# Altium integrated library Linear Technology Power Management Hot Swap Controllers.IntLib: 992 symbols (part 74 of 93)
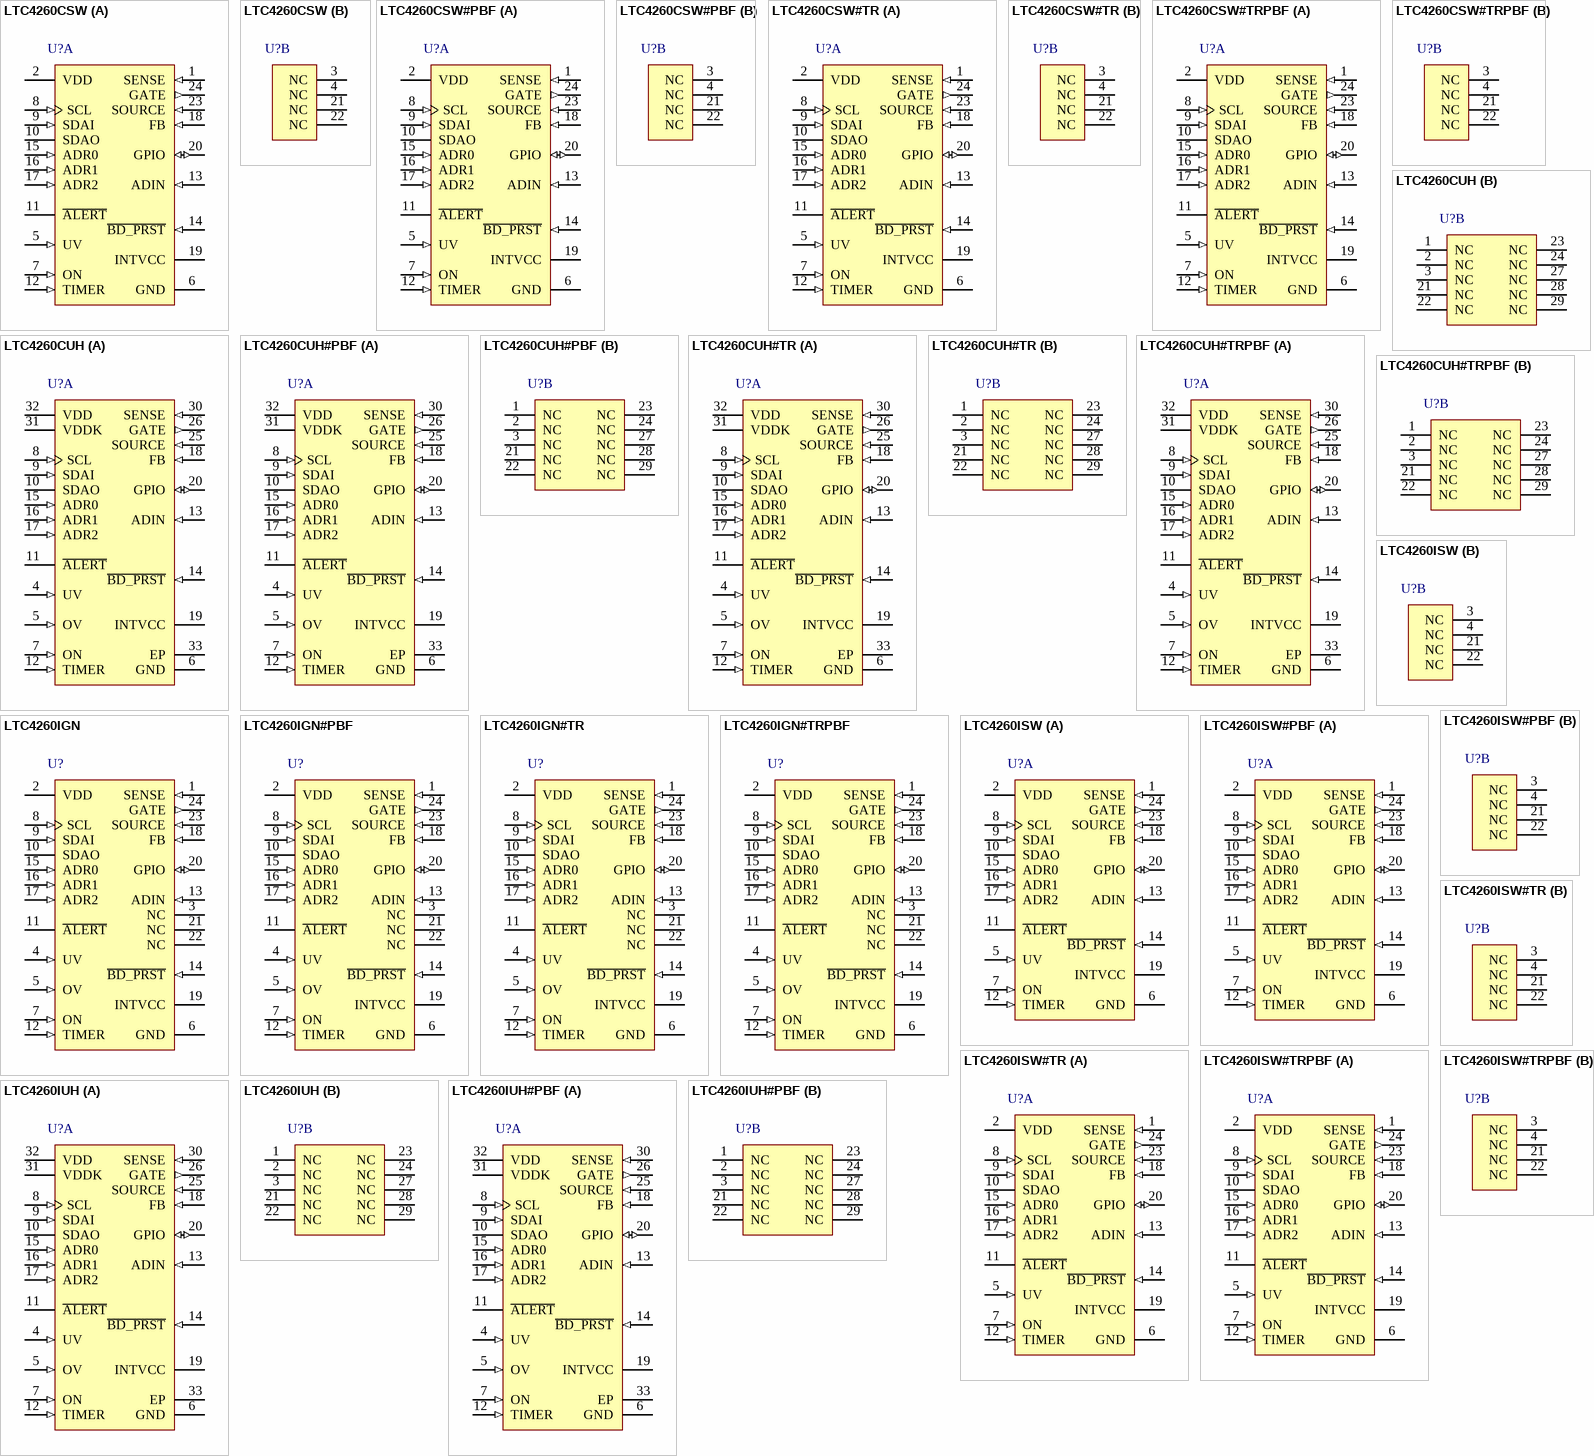
[diagram p110: symbols LTC4260CSW to LTC4260IUH#PBF]

## LTC4260CSW#PBF
designator U?
Positive High Voltage Hot Swap Controller with I2C Compatible Monitoring, 8.5 to 80 V Vin, 24-pin SOIC (SW-24), 0 to 70 degC, Pb-Free; Manufacturer: Linear Technology; PartNumber: LTC4260CSW#PBF; Active Limiting: yes; ADC: 8-bit; Circuit Breaker Accuracy(%): 10; Circuit Breaker Threshold: 50 mV; Circuit Breakers(#): 1; Extended Temp: C, I; Fast Comparator: no; In-Rush Current: Active; DatasheetVersion: Rev. C; PackageVersion: Jun-10; PackageReference: SW-24; PackageDescription: 24-Pin Plastic Small Outline, Body 15.395 x 7.493 mm, Pitch 1.27 mm; Supplier 1: Digi-Key; Supplier Part Number 1: LTC4260CSW#PBF-ND; Fault: yes; Foldback: yes; Power Good: yes; Reset: no; RoHS: TRUE; Vin Range: 8.5 to 80 V; Mounting Technology: Surface Mount; ComponentLink1Description: Manufacturer URL; ComponentLink1URL: http://www.linear.com/; ComponentLink2Description: Datasheet; ComponentLink2URL: http://cds.linear.com/docs/en/datasheet/4260fc.pdf; ComponentLink3Description: Package Specification; ComponentLink3URL: http://cds.linear.com/docs/Packaging/SO_24_05-08-1620.pdf
footprint LT-SW-24_N (SOIC, 24-Leads, Body 15.6x7.6mm, Pitch 1.27mm, IPC Medium Density)
footprint LT-SW-24_L (SOIC, 24-Leads, Body 15.6x7.6mm, Pitch 1.27mm, IPC High Density)
footprint LT-SW-24_M (SOIC, 24-Leads, Body 15.6x7.6mm, Pitch 1.27mm, IPC Low Density)
part A pins: 1 SENSE (in) "Current Sense Input. Connect this pin to the output of the current sense resistor.", 2 VDD (power) "Supply Voltage and Current Sense Input. This pin has an undervoltage lockout threshold of 7.45V.", 5 UV (in) "Undervoltage Comparator Input. Connect this pin to an external resistive divider from VDD. If the voltage at this pin falls below 3.12V, an undervoltage fault is detected and the switch turns off. Pulling this pin below 1.2V (See Datasheet)", 6 GND (power) "Device Ground.", 7 ON (in) "On Control Input. A rising edge turns on the external N-channel FET and a falling edge turns it off.", 8 SCL (in) "Serial Bus Clock Input. Data at the SDA pin is shifted in or out on rising edges of SCL.", 9 SDAI (in) "Serial Bus Data Input. A high impedance input used for shifting in address, command or data bits. Normally tied to SDAO to form the SDA line.", 10 SDAO (oc) "Serial Bus Data Output. Open-drain output used for sending data back to the master controller or acknowledging a write operation. Normally tied to SDAI to form the SDA line. An external pull-up resistor or current source is (See Datasheet)", 11 ~{ALERT} (oc) "Fault Alert Output. Open-drain logic output that can be pulled to ground when a fault occurs to alert the host controller. A fault alert is enabled by the ALERT register. This device is compatible with SMBus alert protocol. (See Datasheet)", 12 TIMER (in) "Timer Input. Connect a capacitor between this pin and ground to set a 12ms/uF duration for current limit before the switch is turned off.", 13 ADIN (in) "ADC Input. A voltage between 0V and 2.56V applied to this pin can be measured by the onboard ADC. Tie to ground if unused.", 14 ~{BD_PRST} (in) "Board Present Input. Ground this pin to enable the N-channel FET to turn on after 100ms debounce delay. When this pin is high, the FET is off. An internal 10uA current source pulls up this pin.", 15 ADR0 (in) "Serial Bus Address Inputs. Tying these pins to ground, open or INTVCC configures one of 27 possible addresses. See Table 1 in Applications Information", 16 ADR1 (in) "Serial Bus Address Inputs. Tying these pins to ground, open or INTVCC configures one of 27 possible addresses. See Table 1 in Applications Information", 17 ADR2 (in) "Serial Bus Address Inputs. Tying these pins to ground, open or INTVCC configures one of 27 possible addresses. See Table 1 in Applications Information", 18 FB (in) "Foldback and Power Good Input. A resistive divider from the output voltage is tied to this pin.", 19 INTVCC (power) "Internal Low Voltage Supply Decoupling Output. Connect a 0.1uF capacitor from this pin to ground. This pin can be used to drive the other pins to logic high and has an undervoltage lockout threshold of 3.8V.", 20 GPIO (io) "General Purpose Input/Output. Open-drain logic output and logic input. Defaults to pull low to indicatepower is bad. Configure according to Table 3.", 23 SOURCE (in) "N-Channel MOSFET Source Connection and ADC Input. Connect this pin to the source of the external N-channel MOSFET switch. This pin also serves as the ADC input to monitor output voltage. The pin provides a return for the (See Datasheet)", 24 GATE (out) "Gate Drive for External N-Channel FET. An internal 18uA current source charges the gate of the external N-channel MOSFET. A resistor and capacitor network from this pin to ground sets the turn-on rate and compensates th(See Datasheet)"
part B pins: 3 NC "No Connect. Unconnected pins. These pins provide extra distance between high and low voltage pins.", 4 NC "No Connect. Unconnected pins. These pins provide extra distance between high and low voltage pins.", 21 NC "No Connect. Unconnected pins. These pins provide extra distance between high and low voltage pins.", 22 NC "No Connect. Unconnected pins. These pins provide extra distance between high and low voltage pins."

## LTC4260CSW#TR
designator U?
Positive High Voltage Hot Swap Controller with I2C Compatible Monitoring, 8.5 to 80 V Vin, 24-pin SOIC (SW-24), 0 to 70 degC, Tape and Reel; Manufacturer: Linear Technology; PartNumber: LTC4260CSW#TR; Active Limiting: yes; ADC: 8-bit; Circuit Breaker Accuracy(%): 10; Circuit Breaker Threshold: 50 mV; Circuit Breakers(#): 1; Extended Temp: C, I; Fast Comparator: no; In-Rush Current: Active; DatasheetVersion: Rev. C; PackageVersion: Jun-10; PackageReference: SW-24; PackageDescription: 24-Pin Plastic Small Outline, Body 15.395 x 7.493 mm, Pitch 1.27 mm; Fault: yes; Foldback: yes; Packing: Tape and Reel; Power Good: yes; Reset: no; RoHS: FALSE; Vin Range: 8.5 to 80 V; Mounting Technology: Surface Mount; ComponentLink1Description: Manufacturer URL; ComponentLink1URL: http://www.linear.com/; ComponentLink2Description: Datasheet; ComponentLink2URL: http://cds.linear.com/docs/en/datasheet/4260fc.pdf; ComponentLink3Description: Package Specification; ComponentLink3URL: http://cds.linear.com/docs/Packaging/SO_24_05-08-1620.pdf
footprint LT-SW-24_N (SOIC, 24-Leads, Body 15.6x7.6mm, Pitch 1.27mm, IPC Medium Density)
footprint LT-SW-24_L (SOIC, 24-Leads, Body 15.6x7.6mm, Pitch 1.27mm, IPC High Density)
footprint LT-SW-24_M (SOIC, 24-Leads, Body 15.6x7.6mm, Pitch 1.27mm, IPC Low Density)
part A pins: 1 SENSE (in) "Current Sense Input. Connect this pin to the output of the current sense resistor.", 2 VDD (power) "Supply Voltage and Current Sense Input. This pin has an undervoltage lockout threshold of 7.45V.", 5 UV (in) "Undervoltage Comparator Input. Connect this pin to an external resistive divider from VDD. If the voltage at this pin falls below 3.12V, an undervoltage fault is detected and the switch turns off. Pulling this pin below 1.2V (See Datasheet)", 6 GND (power) "Device Ground.", 7 ON (in) "On Control Input. A rising edge turns on the external N-channel FET and a falling edge turns it off.", 8 SCL (in) "Serial Bus Clock Input. Data at the SDA pin is shifted in or out on rising edges of SCL.", 9 SDAI (in) "Serial Bus Data Input. A high impedance input used for shifting in address, command or data bits. Normally tied to SDAO to form the SDA line.", 10 SDAO (oc) "Serial Bus Data Output. Open-drain output used for sending data back to the master controller or acknowledging a write operation. Normally tied to SDAI to form the SDA line. An external pull-up resistor or current source is (See Datasheet)", 11 ~{ALERT} (oc) "Fault Alert Output. Open-drain logic output that can be pulled to ground when a fault occurs to alert the host controller. A fault alert is enabled by the ALERT register. This device is compatible with SMBus alert protocol. (See Datasheet)", 12 TIMER (in) "Timer Input. Connect a capacitor between this pin and ground to set a 12ms/uF duration for current limit before the switch is turned off.", 13 ADIN (in) "ADC Input. A voltage between 0V and 2.56V applied to this pin can be measured by the onboard ADC. Tie to ground if unused.", 14 ~{BD_PRST} (in) "Board Present Input. Ground this pin to enable the N-channel FET to turn on after 100ms debounce delay. When this pin is high, the FET is off. An internal 10uA current source pulls up this pin.", 15 ADR0 (in) "Serial Bus Address Inputs. Tying these pins to ground, open or INTVCC configures one of 27 possible addresses. See Table 1 in Applications Information", 16 ADR1 (in) "Serial Bus Address Inputs. Tying these pins to ground, open or INTVCC configures one of 27 possible addresses. See Table 1 in Applications Information", 17 ADR2 (in) "Serial Bus Address Inputs. Tying these pins to ground, open or INTVCC configures one of 27 possible addresses. See Table 1 in Applications Information", 18 FB (in) "Foldback and Power Good Input. A resistive divider from the output voltage is tied to this pin.", 19 INTVCC (power) "Internal Low Voltage Supply Decoupling Output. Connect a 0.1uF capacitor from this pin to ground. This pin can be used to drive the other pins to logic high and has an undervoltage lockout threshold of 3.8V.", 20 GPIO (io) "General Purpose Input/Output. Open-drain logic output and logic input. Defaults to pull low to indicatepower is bad. Configure according to Table 3.", 23 SOURCE (in) "N-Channel MOSFET Source Connection and ADC Input. Connect this pin to the source of the external N-channel MOSFET switch. This pin also serves as the ADC input to monitor output voltage. The pin provides a return for the (See Datasheet)", 24 GATE (out) "Gate Drive for External N-Channel FET. An internal 18uA current source charges the gate of the external N-channel MOSFET. A resistor and capacitor network from this pin to ground sets the turn-on rate and compensates th(See Datasheet)"
part B pins: 3 NC "No Connect. Unconnected pins. These pins provide extra distance between high and low voltage pins.", 4 NC "No Connect. Unconnected pins. These pins provide extra distance between high and low voltage pins.", 21 NC "No Connect. Unconnected pins. These pins provide extra distance between high and low voltage pins.", 22 NC "No Connect. Unconnected pins. These pins provide extra distance between high and low voltage pins."

## LTC4260CSW#TRPBF
designator U?
Positive High Voltage Hot Swap Controller with I2C Compatible Monitoring, 8.5 to 80 V Vin, 24-pin SOIC (SW-24), 0 to 70 degC, Pb-Free, Tape and Reel; Manufacturer: Linear Technology; PartNumber: LTC4260CSW#TRPBF; Active Limiting: yes; ADC: 8-bit; Circuit Breaker Accuracy(%): 10; Circuit Breaker Threshold: 50 mV; Circuit Breakers(#): 1; Extended Temp: C, I; Fast Comparator: no; In-Rush Current: Active; DatasheetVersion: Rev. C; PackageVersion: Jun-10; PackageReference: SW-24; PackageDescription: 24-Pin Plastic Small Outline, Body 15.395 x 7.493 mm, Pitch 1.27 mm; Supplier 1: Digi-Key; Supplier Part Number 1: LTC4260CSW#TRPBF-ND; Fault: yes; Foldback: yes; Packing: Tape and Reel; Power Good: yes; Reset: no; RoHS: TRUE; Vin Range: 8.5 to 80 V; Mounting Technology: Surface Mount; ComponentLink1Description: Manufacturer URL; ComponentLink1URL: http://www.linear.com/; ComponentLink2Description: Datasheet; ComponentLink2URL: http://cds.linear.com/docs/en/datasheet/4260fc.pdf; ComponentLink3Description: Package Specification; ComponentLink3URL: http://cds.linear.com/docs/Packaging/SO_24_05-08-1620.pdf
footprint LT-SW-24_N (SOIC, 24-Leads, Body 15.6x7.6mm, Pitch 1.27mm, IPC Medium Density)
footprint LT-SW-24_L (SOIC, 24-Leads, Body 15.6x7.6mm, Pitch 1.27mm, IPC High Density)
footprint LT-SW-24_M (SOIC, 24-Leads, Body 15.6x7.6mm, Pitch 1.27mm, IPC Low Density)
part A pins: 1 SENSE (in) "Current Sense Input. Connect this pin to the output of the current sense resistor.", 2 VDD (power) "Supply Voltage and Current Sense Input. This pin has an undervoltage lockout threshold of 7.45V.", 5 UV (in) "Undervoltage Comparator Input. Connect this pin to an external resistive divider from VDD. If the voltage at this pin falls below 3.12V, an undervoltage fault is detected and the switch turns off. Pulling this pin below 1.2V (See Datasheet)", 6 GND (power) "Device Ground.", 7 ON (in) "On Control Input. A rising edge turns on the external N-channel FET and a falling edge turns it off.", 8 SCL (in) "Serial Bus Clock Input. Data at the SDA pin is shifted in or out on rising edges of SCL.", 9 SDAI (in) "Serial Bus Data Input. A high impedance input used for shifting in address, command or data bits. Normally tied to SDAO to form the SDA line.", 10 SDAO (oc) "Serial Bus Data Output. Open-drain output used for sending data back to the master controller or acknowledging a write operation. Normally tied to SDAI to form the SDA line. An external pull-up resistor or current source is (See Datasheet)", 11 ~{ALERT} (oc) "Fault Alert Output. Open-drain logic output that can be pulled to ground when a fault occurs to alert the host controller. A fault alert is enabled by the ALERT register. This device is compatible with SMBus alert protocol. (See Datasheet)", 12 TIMER (in) "Timer Input. Connect a capacitor between this pin and ground to set a 12ms/uF duration for current limit before the switch is turned off.", 13 ADIN (in) "ADC Input. A voltage between 0V and 2.56V applied to this pin can be measured by the onboard ADC. Tie to ground if unused.", 14 ~{BD_PRST} (in) "Board Present Input. Ground this pin to enable the N-channel FET to turn on after 100ms debounce delay. When this pin is high, the FET is off. An internal 10uA current source pulls up this pin.", 15 ADR0 (in) "Serial Bus Address Inputs. Tying these pins to ground, open or INTVCC configures one of 27 possible addresses. See Table 1 in Applications Information", 16 ADR1 (in) "Serial Bus Address Inputs. Tying these pins to ground, open or INTVCC configures one of 27 possible addresses. See Table 1 in Applications Information", 17 ADR2 (in) "Serial Bus Address Inputs. Tying these pins to ground, open or INTVCC configures one of 27 possible addresses. See Table 1 in Applications Information", 18 FB (in) "Foldback and Power Good Input. A resistive divider from the output voltage is tied to this pin.", 19 INTVCC (power) "Internal Low Voltage Supply Decoupling Output. Connect a 0.1uF capacitor from this pin to ground. This pin can be used to drive the other pins to logic high and has an undervoltage lockout threshold of 3.8V.", 20 GPIO (io) "General Purpose Input/Output. Open-drain logic output and logic input. Defaults to pull low to indicatepower is bad. Configure according to Table 3.", 23 SOURCE (in) "N-Channel MOSFET Source Connection and ADC Input. Connect this pin to the source of the external N-channel MOSFET switch. This pin also serves as the ADC input to monitor output voltage. The pin provides a return for the (See Datasheet)", 24 GATE (out) "Gate Drive for External N-Channel FET. An internal 18uA current source charges the gate of the external N-channel MOSFET. A resistor and capacitor network from this pin to ground sets the turn-on rate and compensates th(See Datasheet)"
part B pins: 3 NC "No Connect. Unconnected pins. These pins provide extra distance between high and low voltage pins.", 4 NC "No Connect. Unconnected pins. These pins provide extra distance between high and low voltage pins.", 21 NC "No Connect. Unconnected pins. These pins provide extra distance between high and low voltage pins.", 22 NC "No Connect. Unconnected pins. These pins provide extra distance between high and low voltage pins."

## LTC4260CUH
designator U?
Positive High Voltage Hot Swap Controller with I2C Compatible Monitoring, 8.5 to 80 V Vin, 32-pin QFN (UH-32), 0 to 70 degC; Manufacturer: Linear Technology; PartNumber: LTC4260CUH; Active Limiting: yes; ADC: 8-bit; Circuit Breaker Accuracy(%): 10; Circuit Breaker Threshold: 50 mV; Circuit Breakers(#): 1; Extended Temp: C, I; Fast Comparator: no; In-Rush Current: Active; DatasheetVersion: Rev. C; PackageVersion: Rev. D, 06/2010; PackageReference: UH-32; PackageDescription: 32-Pin Plastic QFN, Body 5 x 5 mm, Pitch 0.5 mm; Fault: yes; Foldback: yes; Power Good: yes; Reset: no; RoHS: FALSE; Vin Range: 8.5 to 80 V; Mounting Technology: Surface Mount; Code_JEDEC: MO-220; ComponentLink1Description: Manufacturer URL; ComponentLink1URL: http://www.linear.com/; ComponentLink2Description: Datasheet; ComponentLink2URL: http://cds.linear.com/docs/en/datasheet/4260fc.pdf; ComponentLink3Description: Package Specification; ComponentLink3URL: http://cds.linear.com/docs/en/packaging/QFN_32_05-08-1693.pdf
footprint LT-UH-32_N (QFN, 32-Leads, Body 5.1x5.1mm, Pitch 0.5mm, Thermal Pad 3.45X3.45mm, IPC Medium Density)
footprint LT-UH-32_L (QFN, 32-Leads, Body 5.1x5.1mm, Pitch 0.5mm, Thermal Pad 3.45X3.45mm, IPC High Density)
footprint LT-UH-32_M (QFN, 32-Leads, Body 5.1x5.1mm, Pitch 0.5mm, Thermal Pad 3.45X3.45mm, IPC Low Density)
part A pins: 4 UV (in) "Undervoltage Comparator Input. Connect this pin to an external resistive divider from VDD. If the voltage at this pin falls below 3.12V, an undervoltage fault is detected and the switch turns off. Pulling this pin below 1.2V (See Datasheet)", 5 OV (in) "Overvoltage Comparator Input. Connect this pin to an external resistive divider from VDD. If the voltage at this pin rises above 3.5V, an overvoltage fault is detected and the switch turns off. Tie to GND if unused.", 6 GND (power) "Device Ground.", 7 ON (in) "On Control Input. A rising edge turns on the external N-channel FET and a falling edge turns it off. This pin is also used to configure the state of the FET ON bit (and hence the external FET) at power up. For example if the (See Datasheet)", 8 SCL (in) "Serial Bus Clock Input. Data at the SDA pin is shifted in or out on rising edges of SCL. This is a high impedance pin that is generally driven by an open-collector output from a master controller. An external pull-up (See Datasheet)", 9 SDAI (in) "Serial Bus Data Input. A high impedance input used for shifting in address, command or data bits. Normally tied to SDAO to form the SDA line.", 10 SDAO (oc) "Serial Bus Data Output. Open-drain output used for sending data back to the master controller or acknowledging a write operation. Normally tied to SDAI to form the SDA line. An external pull-up resistor or current source is (See Datasheet)", 11 ~{ALERT} (oc) "Fault Alert Output. Open-drain logic output that can be pulled to ground when a fault occurs to alert the host controller. A fault alert is enabled by the ALERT register. This device is compatible with SMBus alert protocol. (See Datasheet)", 12 TIMER (in) "Timer Input. Connect a capacitor between this pin and ground to set a 12ms/uF duration for current limit before the switch is turned off. The duration of the off time is 518ms/uF when autoretry during current limit is (See Datasheet)", 13 ADIN (in) "ADC Input. A voltage between 0V and 2.56V applied to this pin can be measured by the onboard ADC. Tie to ground if unused.", 14 ~{BD_PRST} (in) "Board Present Input. Ground this pin to enable the N-channel FET to turn on after 100ms debounce delay. When this pin is high, the FET is off. An internal 10uA current source pulls up this pin. Transitions on this pin will (See Datasheet)", 15 ADR0 (in) "Serial Bus Address Inputs. Tying these pins to ground, open or INTVCC configures one of 27 possible addresses. See Table 1 in Applications Information.", 16 ADR1 (in) "Serial Bus Address Inputs. Tying these pins to ground, open or INTVCC configures one of 27 possible addresses. See Table 1 in Applications Information.", 17 ADR2 (in) "Serial Bus Address Inputs. Tying these pins to ground, open or INTVCC configures one of 27 possible addresses. See Table 1 in Applications Information.", 18 FB (in) "Foldback and Power Good Input. A resistive divider from the output voltage is tied to this pin. When the voltage at this pin drops below 3.41V, the output power is considered bad and the current limit is reduced. The power (See Datasheet)", 19 INTVCC (power) "Internal Low Voltage Supply Decoupling Output. Connect a 0.1uF capacitor from this pin to ground. This pin can be used to drive the other pins to logic high and has an undervoltage lockout threshold of 3.8V.", 20 GPIO (io) "General Purpose Input/Output. Open-drain logic output and logic input. Defaults to pull low to indicate power is bad. Configure according to Table 3.", 25 SOURCE (in) "N-Channel MOSFET Source Connection and ADC Input. Connect this pin to the source of the external N-channel MOSFET switch. This pin also serves as the ADC input to monitor output voltage. The pin provides a return for the (See Datasheet)", 26 GATE (out) "Gate Drive for External N-Channel FET. An internal 18uA current source charges the gate of the external N-channel MOSFET. A resistor and capacitor network from this pin to ground sets the turn-on rate and compensates th(See Datasheet)", 30 SENSE (in) "Current Sense Input. Connect this pin to the output of the current sense resistor. The current limit circuit controls the GATE pin to limit the sense voltage between the VDD and SENSE pins to 50mV or less depending on the (See Datasheet)", 31 VDDK (power) "Same as VDD. Connect this pin to VDD. VDDK tied to VDD internally with 18ohm.", 32 VDD (power) "Supply Voltage and Current Sense Input. This pin has an undervoltage lockout threshold of 7.45V.", 33 EP (power) "Exposed pad may be left open or connected to device ground."
part B pins: 1 NC "No Connect. Unconnected pins. These pins provide extra distance between high and low voltage pins.", 2 NC "No Connect. Unconnected pins. These pins provide extra distance between high and low voltage pins.", 3 NC "No Connect. Unconnected pins. These pins provide extra distance between high and low voltage pins.", 21 NC "No Connect. Unconnected pins. These pins provide extra distance between high and low voltage pins.", 22 NC "No Connect. Unconnected pins. These pins provide extra distance between high and low voltage pins.", 23 NC "No Connect. Unconnected pins. These pins provide extra distance between high and low voltage pins.", 24 NC "No Connect. Unconnected pins. These pins provide extra distance between high and low voltage pins.", 27 NC "No Connect. Unconnected pins. These pins provide extra distance between high and low voltage pins.", 28 NC "No Connect. Unconnected pins. These pins provide extra distance between high and low voltage pins.", 29 NC "No Connect. Unconnected pins. These pins provide extra distance between high and low voltage pins."

## LTC4260CUH#PBF
designator U?
Positive High Voltage Hot Swap Controller with I2C Compatible Monitoring, 8.5 to 80 V Vin, 32-pin QFN (UH-32), 0 to 70 degC, Pb-Free; Manufacturer: Linear Technology; PartNumber: LTC4260CUH#PBF; Active Limiting: yes; ADC: 8-bit; Circuit Breaker Accuracy(%): 10; Circuit Breaker Threshold: 50 mV; Circuit Breakers(#): 1; Extended Temp: C, I; Fast Comparator: no; In-Rush Current: Active; DatasheetVersion: Rev. C; PackageVersion: Rev. D, 06/2010; PackageReference: UH-32; PackageDescription: 32-Pin Plastic QFN, Body 5 x 5 mm, Pitch 0.5 mm; Supplier 1: Digi-Key; Supplier Part Number 1: LTC4260CUH#PBF-ND; Fault: yes; Foldback: yes; Power Good: yes; Reset: no; RoHS: TRUE; Vin Range: 8.5 to 80 V; Mounting Technology: Surface Mount; Code_JEDEC: MO-220; ComponentLink1Description: Manufacturer URL; ComponentLink1URL: http://www.linear.com/; ComponentLink2Description: Datasheet; ComponentLink2URL: http://cds.linear.com/docs/en/datasheet/4260fc.pdf; ComponentLink3Description: Package Specification; ComponentLink3URL: http://cds.linear.com/docs/en/packaging/QFN_32_05-08-1693.pdf
footprint LT-UH-32_N (QFN, 32-Leads, Body 5.1x5.1mm, Pitch 0.5mm, Thermal Pad 3.45X3.45mm, IPC Medium Density)
footprint LT-UH-32_L (QFN, 32-Leads, Body 5.1x5.1mm, Pitch 0.5mm, Thermal Pad 3.45X3.45mm, IPC High Density)
footprint LT-UH-32_M (QFN, 32-Leads, Body 5.1x5.1mm, Pitch 0.5mm, Thermal Pad 3.45X3.45mm, IPC Low Density)
part A pins: 4 UV (in) "Undervoltage Comparator Input. Connect this pin to an external resistive divider from VDD. If the voltage at this pin falls below 3.12V, an undervoltage fault is detected and the switch turns off. Pulling this pin below 1.2V (See Datasheet)", 5 OV (in) "Overvoltage Comparator Input. Connect this pin to an external resistive divider from VDD. If the voltage at this pin rises above 3.5V, an overvoltage fault is detected and the switch turns off. Tie to GND if unused.", 6 GND (power) "Device Ground.", 7 ON (in) "On Control Input. A rising edge turns on the external N-channel FET and a falling edge turns it off. This pin is also used to configure the state of the FET ON bit (and hence the external FET) at power up. For example if the (See Datasheet)", 8 SCL (in) "Serial Bus Clock Input. Data at the SDA pin is shifted in or out on rising edges of SCL. This is a high impedance pin that is generally driven by an open-collector output from a master controller. An external pull-up (See Datasheet)", 9 SDAI (in) "Serial Bus Data Input. A high impedance input used for shifting in address, command or data bits. Normally tied to SDAO to form the SDA line.", 10 SDAO (oc) "Serial Bus Data Output. Open-drain output used for sending data back to the master controller or acknowledging a write operation. Normally tied to SDAI to form the SDA line. An external pull-up resistor or current source is (See Datasheet)", 11 ~{ALERT} (oc) "Fault Alert Output. Open-drain logic output that can be pulled to ground when a fault occurs to alert the host controller. A fault alert is enabled by the ALERT register. This device is compatible with SMBus alert protocol. (See Datasheet)", 12 TIMER (in) "Timer Input. Connect a capacitor between this pin and ground to set a 12ms/uF duration for current limit before the switch is turned off. The duration of the off time is 518ms/uF when autoretry during current limit is (See Datasheet)", 13 ADIN (in) "ADC Input. A voltage between 0V and 2.56V applied to this pin can be measured by the onboard ADC. Tie to ground if unused.", 14 ~{BD_PRST} (in) "Board Present Input. Ground this pin to enable the N-channel FET to turn on after 100ms debounce delay. When this pin is high, the FET is off. An internal 10uA current source pulls up this pin. Transitions on this pin will (See Datasheet)", 15 ADR0 (in) "Serial Bus Address Inputs. Tying these pins to ground, open or INTVCC configures one of 27 possible addresses. See Table 1 in Applications Information.", 16 ADR1 (in) "Serial Bus Address Inputs. Tying these pins to ground, open or INTVCC configures one of 27 possible addresses. See Table 1 in Applications Information.", 17 ADR2 (in) "Serial Bus Address Inputs. Tying these pins to ground, open or INTVCC configures one of 27 possible addresses. See Table 1 in Applications Information.", 18 FB (in) "Foldback and Power Good Input. A resistive divider from the output voltage is tied to this pin. When the voltage at this pin drops below 3.41V, the output power is considered bad and the current limit is reduced. The power (See Datasheet)", 19 INTVCC (power) "Internal Low Voltage Supply Decoupling Output. Connect a 0.1uF capacitor from this pin to ground. This pin can be used to drive the other pins to logic high and has an undervoltage lockout threshold of 3.8V.", 20 GPIO (io) "General Purpose Input/Output. Open-drain logic output and logic input. Defaults to pull low to indicate power is bad. Configure according to Table 3.", 25 SOURCE (in) "N-Channel MOSFET Source Connection and ADC Input. Connect this pin to the source of the external N-channel MOSFET switch. This pin also serves as the ADC input to monitor output voltage. The pin provides a return for the (See Datasheet)", 26 GATE (out) "Gate Drive for External N-Channel FET. An internal 18uA current source charges the gate of the external N-channel MOSFET. A resistor and capacitor network from this pin to ground sets the turn-on rate and compensates th(See Datasheet)", 30 SENSE (in) "Current Sense Input. Connect this pin to the output of the current sense resistor. The current limit circuit controls the GATE pin to limit the sense voltage between the VDD and SENSE pins to 50mV or less depending on the (See Datasheet)", 31 VDDK (power) "Same as VDD. Connect this pin to VDD. VDDK tied to VDD internally with 18ohm.", 32 VDD (power) "Supply Voltage and Current Sense Input. This pin has an undervoltage lockout threshold of 7.45V.", 33 EP (power) "Exposed pad may be left open or connected to device ground."
part B pins: 1 NC "No Connect. Unconnected pins. These pins provide extra distance between high and low voltage pins.", 2 NC "No Connect. Unconnected pins. These pins provide extra distance between high and low voltage pins.", 3 NC "No Connect. Unconnected pins. These pins provide extra distance between high and low voltage pins.", 21 NC "No Connect. Unconnected pins. These pins provide extra distance between high and low voltage pins.", 22 NC "No Connect. Unconnected pins. These pins provide extra distance between high and low voltage pins.", 23 NC "No Connect. Unconnected pins. These pins provide extra distance between high and low voltage pins.", 24 NC "No Connect. Unconnected pins. These pins provide extra distance between high and low voltage pins.", 27 NC "No Connect. Unconnected pins. These pins provide extra distance between high and low voltage pins.", 28 NC "No Connect. Unconnected pins. These pins provide extra distance between high and low voltage pins.", 29 NC "No Connect. Unconnected pins. These pins provide extra distance between high and low voltage pins."

## LTC4260CUH#TR
designator U?
Positive High Voltage Hot Swap Controller with I2C Compatible Monitoring, 8.5 to 80 V Vin, 32-pin QFN (UH-32), 0 to 70 degC, Tape and Reel; Manufacturer: Linear Technology; PartNumber: LTC4260CUH#TR; Active Limiting: yes; ADC: 8-bit; Circuit Breaker Accuracy(%): 10; Circuit Breaker Threshold: 50 mV; Circuit Breakers(#): 1; Extended Temp: C, I; Fast Comparator: no; In-Rush Current: Active; DatasheetVersion: Rev. C; PackageVersion: Rev. D, 06/2010; PackageReference: UH-32; PackageDescription: 32-Pin Plastic QFN, Body 5 x 5 mm, Pitch 0.5 mm; Fault: yes; Foldback: yes; Packing: Tape and Reel; Power Good: yes; Reset: no; RoHS: FALSE; Vin Range: 8.5 to 80 V; Mounting Technology: Surface Mount; Code_JEDEC: MO-220; ComponentLink1Description: Manufacturer URL; ComponentLink1URL: http://www.linear.com/; ComponentLink2Description: Datasheet; ComponentLink2URL: http://cds.linear.com/docs/en/datasheet/4260fc.pdf; ComponentLink3Description: Package Specification; ComponentLink3URL: http://cds.linear.com/docs/en/packaging/QFN_32_05-08-1693.pdf
footprint LT-UH-32_N (QFN, 32-Leads, Body 5.1x5.1mm, Pitch 0.5mm, Thermal Pad 3.45X3.45mm, IPC Medium Density)
footprint LT-UH-32_L (QFN, 32-Leads, Body 5.1x5.1mm, Pitch 0.5mm, Thermal Pad 3.45X3.45mm, IPC High Density)
footprint LT-UH-32_M (QFN, 32-Leads, Body 5.1x5.1mm, Pitch 0.5mm, Thermal Pad 3.45X3.45mm, IPC Low Density)
part A pins: 4 UV (in) "Undervoltage Comparator Input. Connect this pin to an external resistive divider from VDD. If the voltage at this pin falls below 3.12V, an undervoltage fault is detected and the switch turns off. Pulling this pin below 1.2V (See Datasheet)", 5 OV (in) "Overvoltage Comparator Input. Connect this pin to an external resistive divider from VDD. If the voltage at this pin rises above 3.5V, an overvoltage fault is detected and the switch turns off. Tie to GND if unused.", 6 GND (power) "Device Ground.", 7 ON (in) "On Control Input. A rising edge turns on the external N-channel FET and a falling edge turns it off. This pin is also used to configure the state of the FET ON bit (and hence the external FET) at power up. For example if the (See Datasheet)", 8 SCL (in) "Serial Bus Clock Input. Data at the SDA pin is shifted in or out on rising edges of SCL. This is a high impedance pin that is generally driven by an open-collector output from a master controller. An external pull-up (See Datasheet)", 9 SDAI (in) "Serial Bus Data Input. A high impedance input used for shifting in address, command or data bits. Normally tied to SDAO to form the SDA line.", 10 SDAO (oc) "Serial Bus Data Output. Open-drain output used for sending data back to the master controller or acknowledging a write operation. Normally tied to SDAI to form the SDA line. An external pull-up resistor or current source is (See Datasheet)", 11 ~{ALERT} (oc) "Fault Alert Output. Open-drain logic output that can be pulled to ground when a fault occurs to alert the host controller. A fault alert is enabled by the ALERT register. This device is compatible with SMBus alert protocol. (See Datasheet)", 12 TIMER (in) "Timer Input. Connect a capacitor between this pin and ground to set a 12ms/uF duration for current limit before the switch is turned off. The duration of the off time is 518ms/uF when autoretry during current limit is (See Datasheet)", 13 ADIN (in) "ADC Input. A voltage between 0V and 2.56V applied to this pin can be measured by the onboard ADC. Tie to ground if unused.", 14 ~{BD_PRST} (in) "Board Present Input. Ground this pin to enable the N-channel FET to turn on after 100ms debounce delay. When this pin is high, the FET is off. An internal 10uA current source pulls up this pin. Transitions on this pin will (See Datasheet)", 15 ADR0 (in) "Serial Bus Address Inputs. Tying these pins to ground, open or INTVCC configures one of 27 possible addresses. See Table 1 in Applications Information.", 16 ADR1 (in) "Serial Bus Address Inputs. Tying these pins to ground, open or INTVCC configures one of 27 possible addresses. See Table 1 in Applications Information.", 17 ADR2 (in) "Serial Bus Address Inputs. Tying these pins to ground, open or INTVCC configures one of 27 possible addresses. See Table 1 in Applications Information.", 18 FB (in) "Foldback and Power Good Input. A resistive divider from the output voltage is tied to this pin. When the voltage at this pin drops below 3.41V, the output power is considered bad and the current limit is reduced. The power (See Datasheet)", 19 INTVCC (power) "Internal Low Voltage Supply Decoupling Output. Connect a 0.1uF capacitor from this pin to ground. This pin can be used to drive the other pins to logic high and has an undervoltage lockout threshold of 3.8V.", 20 GPIO (io) "General Purpose Input/Output. Open-drain logic output and logic input. Defaults to pull low to indicate power is bad. Configure according to Table 3.", 25 SOURCE (in) "N-Channel MOSFET Source Connection and ADC Input. Connect this pin to the source of the external N-channel MOSFET switch. This pin also serves as the ADC input to monitor output voltage. The pin provides a return for the (See Datasheet)", 26 GATE (out) "Gate Drive for External N-Channel FET. An internal 18uA current source charges the gate of the external N-channel MOSFET. A resistor and capacitor network from this pin to ground sets the turn-on rate and compensates th(See Datasheet)", 30 SENSE (in) "Current Sense Input. Connect this pin to the output of the current sense resistor. The current limit circuit controls the GATE pin to limit the sense voltage between the VDD and SENSE pins to 50mV or less depending on the (See Datasheet)", 31 VDDK (power) "Same as VDD. Connect this pin to VDD. VDDK tied to VDD internally with 18ohm.", 32 VDD (power) "Supply Voltage and Current Sense Input. This pin has an undervoltage lockout threshold of 7.45V.", 33 EP (power) "Exposed pad may be left open or connected to device ground."
part B pins: 1 NC "No Connect. Unconnected pins. These pins provide extra distance between high and low voltage pins.", 2 NC "No Connect. Unconnected pins. These pins provide extra distance between high and low voltage pins.", 3 NC "No Connect. Unconnected pins. These pins provide extra distance between high and low voltage pins.", 21 NC "No Connect. Unconnected pins. These pins provide extra distance between high and low voltage pins.", 22 NC "No Connect. Unconnected pins. These pins provide extra distance between high and low voltage pins.", 23 NC "No Connect. Unconnected pins. These pins provide extra distance between high and low voltage pins.", 24 NC "No Connect. Unconnected pins. These pins provide extra distance between high and low voltage pins.", 27 NC "No Connect. Unconnected pins. These pins provide extra distance between high and low voltage pins.", 28 NC "No Connect. Unconnected pins. These pins provide extra distance between high and low voltage pins.", 29 NC "No Connect. Unconnected pins. These pins provide extra distance between high and low voltage pins."

## LTC4260CUH#TRPBF
designator U?
Positive High Voltage Hot Swap Controller with I2C Compatible Monitoring, 8.5 to 80 V Vin, 32-pin QFN (UH-32), 0 to 70 degC, Pb-Free, Tape and Reel; Manufacturer: Linear Technology; PartNumber: LTC4260CUH#TRPBF; Active Limiting: yes; ADC: 8-bit; Circuit Breaker Accuracy(%): 10; Circuit Breaker Threshold: 50 mV; Circuit Breakers(#): 1; Extended Temp: C, I; Fast Comparator: no; In-Rush Current: Active; DatasheetVersion: Rev. C; PackageVersion: Rev. D, 06/2010; PackageReference: UH-32; PackageDescription: 32-Pin Plastic QFN, Body 5 x 5 mm, Pitch 0.5 mm; Supplier 1: Digi-Key; Supplier Part Number 1: LTC4260CUH#TRPBF-ND; Fault: yes; Foldback: yes; Packing: Tape and Reel; Power Good: yes; Reset: no; RoHS: TRUE; Vin Range: 8.5 to 80 V; Mounting Technology: Surface Mount; Code_JEDEC: MO-220; ComponentLink1Description: Manufacturer URL; ComponentLink1URL: http://www.linear.com/; ComponentLink2Description: Datasheet; ComponentLink2URL: http://cds.linear.com/docs/en/datasheet/4260fc.pdf; ComponentLink3Description: Package Specification; ComponentLink3URL: http://cds.linear.com/docs/en/packaging/QFN_32_05-08-1693.pdf
footprint LT-UH-32_N (QFN, 32-Leads, Body 5.1x5.1mm, Pitch 0.5mm, Thermal Pad 3.45X3.45mm, IPC Medium Density)
footprint LT-UH-32_L (QFN, 32-Leads, Body 5.1x5.1mm, Pitch 0.5mm, Thermal Pad 3.45X3.45mm, IPC High Density)
footprint LT-UH-32_M (QFN, 32-Leads, Body 5.1x5.1mm, Pitch 0.5mm, Thermal Pad 3.45X3.45mm, IPC Low Density)
part A pins: 4 UV (in) "Undervoltage Comparator Input. Connect this pin to an external resistive divider from VDD. If the voltage at this pin falls below 3.12V, an undervoltage fault is detected and the switch turns off. Pulling this pin below 1.2V (See Datasheet)", 5 OV (in) "Overvoltage Comparator Input. Connect this pin to an external resistive divider from VDD. If the voltage at this pin rises above 3.5V, an overvoltage fault is detected and the switch turns off. Tie to GND if unused.", 6 GND (power) "Device Ground.", 7 ON (in) "On Control Input. A rising edge turns on the external N-channel FET and a falling edge turns it off. This pin is also used to configure the state of the FET ON bit (and hence the external FET) at power up. For example if the (See Datasheet)", 8 SCL (in) "Serial Bus Clock Input. Data at the SDA pin is shifted in or out on rising edges of SCL. This is a high impedance pin that is generally driven by an open-collector output from a master controller. An external pull-up (See Datasheet)", 9 SDAI (in) "Serial Bus Data Input. A high impedance input used for shifting in address, command or data bits. Normally tied to SDAO to form the SDA line.", 10 SDAO (oc) "Serial Bus Data Output. Open-drain output used for sending data back to the master controller or acknowledging a write operation. Normally tied to SDAI to form the SDA line. An external pull-up resistor or current source is (See Datasheet)", 11 ~{ALERT} (oc) "Fault Alert Output. Open-drain logic output that can be pulled to ground when a fault occurs to alert the host controller. A fault alert is enabled by the ALERT register. This device is compatible with SMBus alert protocol. (See Datasheet)", 12 TIMER (in) "Timer Input. Connect a capacitor between this pin and ground to set a 12ms/uF duration for current limit before the switch is turned off. The duration of the off time is 518ms/uF when autoretry during current limit is (See Datasheet)", 13 ADIN (in) "ADC Input. A voltage between 0V and 2.56V applied to this pin can be measured by the onboard ADC. Tie to ground if unused.", 14 ~{BD_PRST} (in) "Board Present Input. Ground this pin to enable the N-channel FET to turn on after 100ms debounce delay. When this pin is high, the FET is off. An internal 10uA current source pulls up this pin. Transitions on this pin will (See Datasheet)", 15 ADR0 (in) "Serial Bus Address Inputs. Tying these pins to ground, open or INTVCC configures one of 27 possible addresses. See Table 1 in Applications Information.", 16 ADR1 (in) "Serial Bus Address Inputs. Tying these pins to ground, open or INTVCC configures one of 27 possible addresses. See Table 1 in Applications Information.", 17 ADR2 (in) "Serial Bus Address Inputs. Tying these pins to ground, open or INTVCC configures one of 27 possible addresses. See Table 1 in Applications Information.", 18 FB (in) "Foldback and Power Good Input. A resistive divider from the output voltage is tied to this pin. When the voltage at this pin drops below 3.41V, the output power is considered bad and the current limit is reduced. The power (See Datasheet)", 19 INTVCC (power) "Internal Low Voltage Supply Decoupling Output. Connect a 0.1uF capacitor from this pin to ground. This pin can be used to drive the other pins to logic high and has an undervoltage lockout threshold of 3.8V.", 20 GPIO (io) "General Purpose Input/Output. Open-drain logic output and logic input. Defaults to pull low to indicate power is bad. Configure according to Table 3.", 25 SOURCE (in) "N-Channel MOSFET Source Connection and ADC Input. Connect this pin to the source of the external N-channel MOSFET switch. This pin also serves as the ADC input to monitor output voltage. The pin provides a return for the (See Datasheet)", 26 GATE (out) "Gate Drive for External N-Channel FET. An internal 18uA current source charges the gate of the external N-channel MOSFET. A resistor and capacitor network from this pin to ground sets the turn-on rate and compensates th(See Datasheet)", 30 SENSE (in) "Current Sense Input. Connect this pin to the output of the current sense resistor. The current limit circuit controls the GATE pin to limit the sense voltage between the VDD and SENSE pins to 50mV or less depending on the (See Datasheet)", 31 VDDK (power) "Same as VDD. Connect this pin to VDD. VDDK tied to VDD internally with 18ohm.", 32 VDD (power) "Supply Voltage and Current Sense Input. This pin has an undervoltage lockout threshold of 7.45V.", 33 EP (power) "Exposed pad may be left open or connected to device ground."
part B pins: 1 NC "No Connect. Unconnected pins. These pins provide extra distance between high and low voltage pins.", 2 NC "No Connect. Unconnected pins. These pins provide extra distance between high and low voltage pins.", 3 NC "No Connect. Unconnected pins. These pins provide extra distance between high and low voltage pins.", 21 NC "No Connect. Unconnected pins. These pins provide extra distance between high and low voltage pins.", 22 NC "No Connect. Unconnected pins. These pins provide extra distance between high and low voltage pins.", 23 NC "No Connect. Unconnected pins. These pins provide extra distance between high and low voltage pins.", 24 NC "No Connect. Unconnected pins. These pins provide extra distance between high and low voltage pins.", 27 NC "No Connect. Unconnected pins. These pins provide extra distance between high and low voltage pins.", 28 NC "No Connect. Unconnected pins. These pins provide extra distance between high and low voltage pins.", 29 NC "No Connect. Unconnected pins. These pins provide extra distance between high and low voltage pins."

## LTC4260IGN
designator U?
Positive High Voltage Hot Swap Controller with I2C Compatible Monitoring, 8.5 to 80 V Vin, 24-pin SOP (GN-24), -40 to 85 degC; Manufacturer: Linear Technology; PartNumber: LTC4260IGN; Active Limiting: yes; ADC: 8-bit; Circuit Breaker Accuracy(%): 10; Circuit Breaker Threshold: 50 mV; Circuit Breakers(#): 1; Extended Temp: C, I; Fast Comparator: no; In-Rush Current: Active; DatasheetVersion: Rev. C; PackageVersion: Rev. B, 03/2012; PackageReference: GN24; PackageDescription: 24-Pin Plastic SSOP , Body 8.5 x 3.9 mm, Pitch 0.635 mm; Fault: yes; Foldback: yes; Power Good: yes; Reset: no; RoHS: FALSE; Vin Range: 8.5 to 80 V; Mounting Technology: Surface Mount; ComponentLink1Description: Manufacturer URL; ComponentLink1URL: http://www.linear.com/; ComponentLink2Description: Datasheet; ComponentLink2URL: http://cds.linear.com/docs/en/datasheet/4260fc.pdf; ComponentLink3Description: Package Specification; ComponentLink3URL: http://cds.linear.com/docs/en/packaging/05081641_B_GN24.pdf
footprint LT-GN-24_N (SOP, 24-Leads, Body 8.7x4mm, Pitch 0.635mm, IPC Medium Density)
footprint LT-GN-24_L (SOP, 24-Leads, Body 8.7x4mm, Pitch 0.635mm, IPC High Density)
footprint LT-GN-24_M (SOP, 24-Leads, Body 8.7x4mm, Pitch 0.635mm, IPC Low Density)
pins: 1 SENSE (in) "Current Sense Input. Connect this pin to the output of the current sense resistor.", 2 VDD (power) "Supply Voltage and Current Sense Input. This pin has an undervoltage lockout threshold of 7.45V.", 3 NC "No Connect. Unconnected pins. These pins provide extra distance between high and low voltage pins.", 4 UV (in) "Undervoltage Comparator Input. Connect this pin to an external resistive divider from VDD. If the voltage at this pin falls below 3.12V, an undervoltage fault is detected and the switch turns off.", 5 OV (in) "Overvoltage Comparator Input. Connect this pin to an external resistive divider from VDD. If the voltage at this pin rises above 3.5V, an overvoltage fault is detected and the switch turns off. Tie to GND if unused.", 6 GND (power) "Device Ground.", 7 ON (in) "On Control Input. A rising edge turns on the external N-channel FET and a falling edge turns it off.", 8 SCL (in) "Serial Bus Clock Input. Data at the SDA pin is shifted in or out on rising edges of SCL.", 9 SDAI (in) "Serial Bus Data Input. A high impedance input used for shifting in address, command or data bits. Normally tied to SDAO to form the SDA line.", 10 SDAO (oc) "Serial Bus Data Output. Open-drain output used for sending data back to the master controller or acknowledging a write operation. Normally tied to SDAI to form the SDA line. An external pull-up resistor or current source is (See Datasheet)", 11 ~{ALERT} (oc) "Fault Alert Output. Open-drain logic output that can be pulled to ground when a fault occurs to alert the host controller. A fault alert is enabled by the ALERT register. This device is compatible with SMBus alert protocol. (See Datasheet)", 12 TIMER (in) "Timer Input. Connect a capacitor between this pin and ground to set a 12ms/uF duration for current limit before the switch is turned off.", 13 ADIN (in) "ADC Input. A voltage between 0V and 2.56V applied to this pin can be measured by the onboard ADC. Tie to ground if unused.", 14 ~{BD_PRST} (in) "Board Present Input. Ground this pin to enable the N-channel FET to turn on after 100ms debounce delay. When this pin is high, the FET is off. An internal 10uA current source pulls up this pin.", 15 ADR0 (in) "Serial Bus Address Inputs. Tying these pins to ground, open or INTVCC configures one of 27 possible addresses. See Table 1 in Applications Information", 16 ADR1 (in) "Serial Bus Address Inputs. Tying these pins to ground, open or INTVCC configures one of 27 possible addresses. See Table 1 in Applications Information", 17 ADR2 (in) "Serial Bus Address Inputs. Tying these pins to ground, open or INTVCC configures one of 27 possible addresses. See Table 1 in Applications Information", 18 FB (in) "Foldback and Power Good Input. A resistive divider from the output voltage is tied to this pin.", 19 INTVCC (power) "Internal Low Voltage Supply Decoupling Output. Connect a 0.1uF capacitor from this pin to ground. This pin can be used to drive the other pins to logic high and has an undervoltage lockout threshold of 3.8V.", 20 GPIO (io) "General Purpose Input/Output. Open-drain logic output and logic input. Defaults to pull low to indicatepower is bad. Configure according to Table 3.", 21 NC "No Connect. Unconnected pins. These pins provide extra distance between high and low voltage pins.", 22 NC "No Connect. Unconnected pins. These pins provide extra distance between high and low voltage pins.", 23 SOURCE (in) "N-Channel MOSFET Source Connection and ADC Input. Connect this pin to the source of the external N-channel MOSFET switch. This pin also serves as the ADC input to monitor output voltage. The pin provides a return for the (See Datasheet)", 24 GATE (out) "Gate Drive for External N-Channel FET. An internal 18uA current source charges the gate of the external N-channel MOSFET. A resistor and capacitor network from this pin to ground sets the turn-on rate and compensates th(See Datasheet)"